# Altium schematic symbol library W25Q128JVSIQ_TR.SchLib: 1 symbol
Pins are listed as number, name and electrical type; pins without a type are passive.

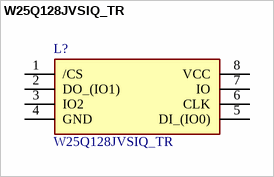
[diagram p0: symbol W25Q128JVSIQ_TR]

## W25Q128JVSIQ_TR
designator L?
FLASH - NOR Memory IC 128Mb (16M x 8) SPI - Quad I/O 8-SOIC; Manufacturer_Name: Winbond; Manufacturer_Part_Number: W25Q128JVSIQ TR; Geometry.Height: 1.95mm; Mouser Part Number: 454-W25Q128JVSIQTR; Mouser Price/Stock: https://www.mouser.co.uk/ProductDetail/Winbond/W25Q128JVSIQ-TR?qs=qSfuJ%252Bfl%2Fd7vTyLA9kNdGw%3D%3D; Datasheet Link: http://www.winbond.com/resource-files/w25q128jv%20spi%20revc%2011162016.pdf
footprint SOIC127P780X195-8N
pins: 1 /CS, 2 DO_(IO1), 3 IO2, 4 GND, 5 DI_(IO0), 6 CLK, 7 IO, 8 VCC